# Altium integrated library Linear Technology PMIC-Switching Reg LTC1174-LTC3901.IntLib: 2647 symbols (part 300 of 310)
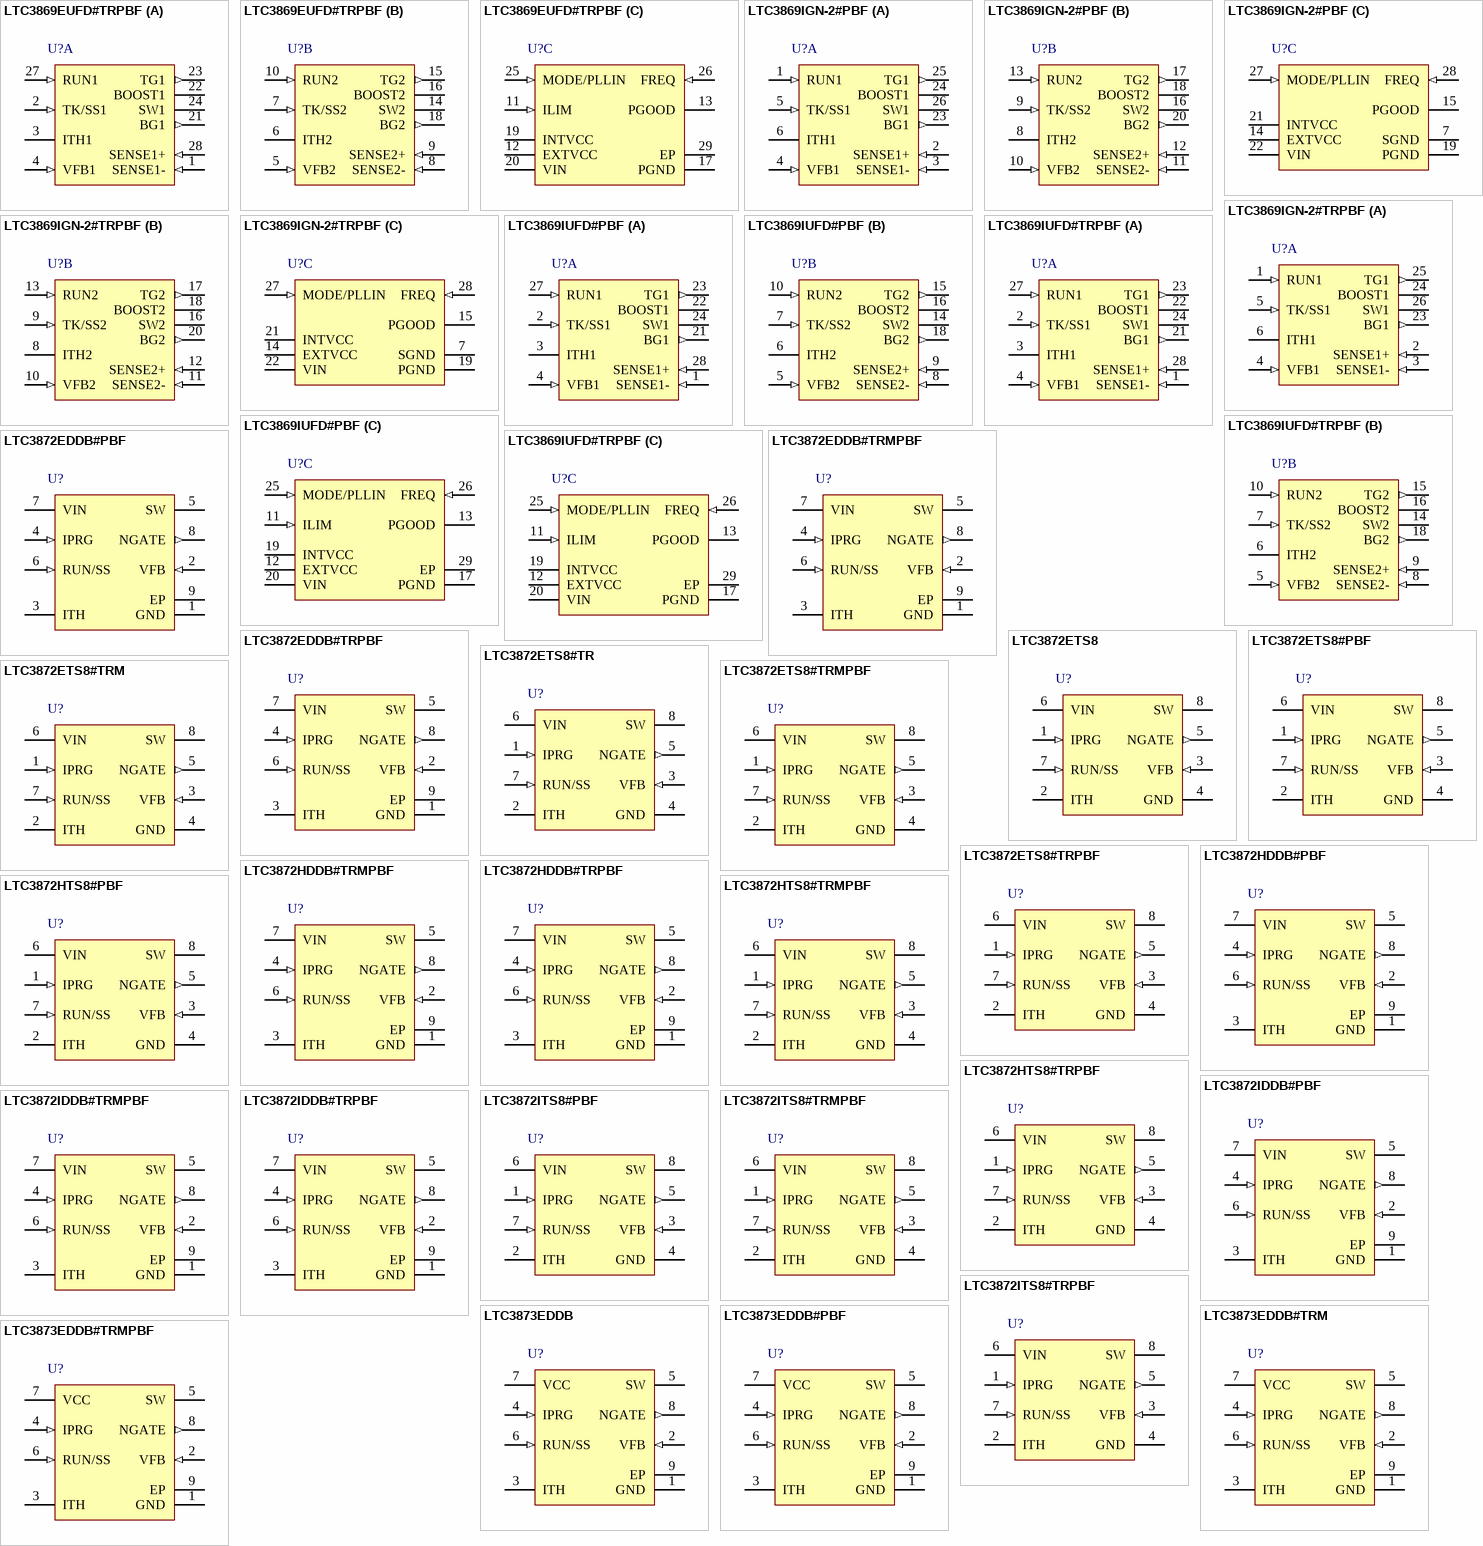
[diagram p298: symbols LTC3869EUFD#TRPBF to LTC3873EDDB#TRMPBF]

## LTC3869IGN-2#PBF
designator U?
Dual, 2-Phase Synchronous Step-Down DC/DC Controller, 28-pin SOP (GN-28), -40 to 125 degC, Pb-Free; Manufacturer: Linear Technology; PartNumber: LTC3869IGN-2#PBF; Number of Outputs: 2; PackageReference: GN-28; PackageDescription: 28-Pin Plastic SSOP, Body 9.9 x 3.9 mm, Pitch 0.635 mm; Supplier 1: Digi-Key; Supplier Part Number 1: LTC3869IGN-2#PBF-ND; RoHS: TRUE
footprint LT-GN-28_N (SOP, 28-Leads, Body 9.98x3.98mm, Pitch 0.635mm, IPC Medium Density)
footprint LT-GN-28_L (SOP, 28-Leads, Body 9.98x3.98mm, Pitch 0.635mm, IPC High Density)
footprint LT-GN-28_M (SOP, 28-Leads, Body 9.98x3.98mm, Pitch 0.635mm, IPC Low Density)
part A pins: 1 RUN1 (in) "Run Control Inputs. A voltage above 1.2V on either pin turns on the IC. However, forcing either of these pins below 1.2V causes the IC to shut down the circuitry required for that particular channel. There are 1uA pull-up (See Datasheet)", 2 SENSE1+ (in) "Current Sense Comparator Inputs. The (+) inputs to the current comparators are normally connected to DCR sensing networks or current sensing resistors.", 3 SENSE1- (in) "Current Sense Comparator Inputs. The (-) inputs to the current comparators are connected to the outputs.", 4 VFB1 (in) "Error Amplifier Feedback Inputs. These pins receive the remotely sensed feedback voltages for each channel from external resistive dividers across the outputs.", 5 TK/SS1 (in) "Output Voltage Tracking and Soft-Start Inputs. When one particular channel is configured to be the master of two channels, a capacitor to ground at this pin sets the ramp rate for the master channel’s output voltage. Whe(See Datasheet)", 6 ITH1 "Current Control Thresholds and Error Amplifier Compensation Points. Each associated channels’ current comparator tripping threshold increases with its ITH control voltage.", 23 BG1 (out) "Bottom Gate Driver Outputs. These pins drive the gates of the bottom N-channel MOSFETs between PGND and INTVCC.", 24 BOOST1 "Boosted Floating Driver Supplies. The (+) terminal of the booststrap capacitors connect to these pins. These pins swing from a diode voltage drop below INTVCC up to VIN + INTVCC", 25 TG1 (out) "Top Gate Driver Outputs. These are the outputs of floating drivers with a voltage swing equal to INTVCC superimposed on the switch nodes voltages.", 26 SW1 "Switch Node Connections to Inductors. Voltage swing at these pins is from a Schottky diode (external) voltage drop below ground to VIN."
part B pins: 8 ITH2 "Current Control Thresholds and Error Amplifier Compensation Points. Each associated channels’ current comparator tripping threshold increases with its ITH control voltage.", 9 TK/SS2 (in) "Output Voltage Tracking and Soft-Start Inputs. When one particular channel is configured to be the master of two channels, a capacitor to ground at this pin sets the ramp rate for the master channel’s output voltage. Whe(See Datasheet)", 10 VFB2 (in) "Error Amplifier Feedback Inputs. These pins receive the remotely sensed feedback voltages for each channel from external resistive dividers across the outputs.", 11 SENSE2- (in) "Current Sense Comparator Inputs. The (-) inputs to the current comparators are connected to the outputs.", 12 SENSE2+ (in) "Current Sense Comparator Inputs. The (+) inputs to the current comparators are normally connected to DCR sensing networks or current sensing resistors.", 13 RUN2 (in) "Run Control Inputs. A voltage above 1.2V on either pin turns on the IC. However, forcing either of these pins below 1.2V causes the IC to shut down the circuitry required for that particular channel. There are 1uA pull-up (See Datasheet)", 16 SW2 "Switch Node Connections to Inductors. Voltage swing at these pins is from a Schottky diode (external) voltage drop below ground to VIN.", 17 TG2 (out) "Top Gate Driver Outputs. These are the outputs of floating drivers with a voltage swing equal to INTVCC superimposed on the switch nodes voltages.", 18 BOOST2 "Boosted Floating Driver Supplies. The (+) terminal of the booststrap capacitors connect to these pins. These pins swing from a diode voltage drop below INTVCC up to VIN + INTVCC", 20 BG2 (out) "Bottom Gate Driver Outputs. These pins drive the gates of the bottom N-channel MOSFETs between PGND and INTVCC."
part C pins: 7 SGND (power) "Signal Ground. All small-signal components and compensation components should connect to this ground, which in turn connects to PGND at one point. Pin 29 is the exposed pad, only available for the UFD package. The exposed (See Datasheet)", 14 EXTVCC (power) "External Power Input to an Internal Switch Connected to INTVCC. This switch closes and supplies the IC power, bypassing the internal low dropout regulator, whenever EXTVCC is higher than 4.7V. Do not exceed 6V on this pin.", 15 PGOOD (oc) "Power Good Indicator Output. Open drain logic out that is pulled to ground when either channel output exceeds +/-10% regulation windows, after the internal 20us power bad mask timer expires.", 19 PGND (power) "Power Ground Pin. Connect this pin closely to the sources of the bottom N-channel MOSFETs, the (-) terminal of CVCC and the (-) terminal of CIN.", 21 INTVCC (power) "Internal 5V Regulator Output. The control circuits are powered from this voltage. Decouple this pin to PGND with a minimum of 4.7uF low ESR tantalum or ceramic capacitor.", 22 VIN (power) "Main Input Supply. Decouple this pin to PGND with a capacitor (0.1uF to 1uF).", 27 MODE/PLLIN (in) "Forced Continuous Mode, Burst Mode Operation, or Pulse-Skipping Mode Selection Pin and External Synchronization Input to Phase Detector Pin. Connect this pin to SGND to force both channels in continuous mode of operation. (See Datasheet)", 28 FREQ (in) "There is a precision 10uA current flowing out of this pin. Connect a resistor to ground set the controllers’ operating frequency. Alternatively, this pin can be driven with a DC voltage to vary the frequency of th(See Datasheet)"

## LTC3869IGN-2#TRPBF
designator U?
Dual, 2-Phase Synchronous Step-Down DC/DC Controller, 28-pin SOP (GN-28), -40 to 125 degC, Pb-Free, Tape and Reel; Manufacturer: Linear Technology; PartNumber: LTC3869IGN-2#TRPBF; Number of Outputs: 2; PackageReference: GN-28; PackageDescription: 28-Pin Plastic SSOP, Body 9.9 x 3.9 mm, Pitch 0.635 mm; Supplier 1: Digi-Key; Supplier Part Number 1: LTC3869IGN-2#TRPBF-ND; RoHS: TRUE
footprint LT-GN-28_N (SOP, 28-Leads, Body 9.98x3.98mm, Pitch 0.635mm, IPC Medium Density)
footprint LT-GN-28_L (SOP, 28-Leads, Body 9.98x3.98mm, Pitch 0.635mm, IPC High Density)
footprint LT-GN-28_M (SOP, 28-Leads, Body 9.98x3.98mm, Pitch 0.635mm, IPC Low Density)
part A pins: 1 RUN1 (in) "Run Control Inputs. A voltage above 1.2V on either pin turns on the IC. However, forcing either of these pins below 1.2V causes the IC to shut down the circuitry required for that particular channel. There are 1uA pull-up (See Datasheet)", 2 SENSE1+ (in) "Current Sense Comparator Inputs. The (+) inputs to the current comparators are normally connected to DCR sensing networks or current sensing resistors.", 3 SENSE1- (in) "Current Sense Comparator Inputs. The (-) inputs to the current comparators are connected to the outputs.", 4 VFB1 (in) "Error Amplifier Feedback Inputs. These pins receive the remotely sensed feedback voltages for each channel from external resistive dividers across the outputs.", 5 TK/SS1 (in) "Output Voltage Tracking and Soft-Start Inputs. When one particular channel is configured to be the master of two channels, a capacitor to ground at this pin sets the ramp rate for the master channel’s output voltage. Whe(See Datasheet)", 6 ITH1 "Current Control Thresholds and Error Amplifier Compensation Points. Each associated channels’ current comparator tripping threshold increases with its ITH control voltage.", 23 BG1 (out) "Bottom Gate Driver Outputs. These pins drive the gates of the bottom N-channel MOSFETs between PGND and INTVCC.", 24 BOOST1 "Boosted Floating Driver Supplies. The (+) terminal of the booststrap capacitors connect to these pins. These pins swing from a diode voltage drop below INTVCC up to VIN + INTVCC", 25 TG1 (out) "Top Gate Driver Outputs. These are the outputs of floating drivers with a voltage swing equal to INTVCC superimposed on the switch nodes voltages.", 26 SW1 "Switch Node Connections to Inductors. Voltage swing at these pins is from a Schottky diode (external) voltage drop below ground to VIN."
part B pins: 8 ITH2 "Current Control Thresholds and Error Amplifier Compensation Points. Each associated channels’ current comparator tripping threshold increases with its ITH control voltage.", 9 TK/SS2 (in) "Output Voltage Tracking and Soft-Start Inputs. When one particular channel is configured to be the master of two channels, a capacitor to ground at this pin sets the ramp rate for the master channel’s output voltage. Whe(See Datasheet)", 10 VFB2 (in) "Error Amplifier Feedback Inputs. These pins receive the remotely sensed feedback voltages for each channel from external resistive dividers across the outputs.", 11 SENSE2- (in) "Current Sense Comparator Inputs. The (-) inputs to the current comparators are connected to the outputs.", 12 SENSE2+ (in) "Current Sense Comparator Inputs. The (+) inputs to the current comparators are normally connected to DCR sensing networks or current sensing resistors.", 13 RUN2 (in) "Run Control Inputs. A voltage above 1.2V on either pin turns on the IC. However, forcing either of these pins below 1.2V causes the IC to shut down the circuitry required for that particular channel. There are 1uA pull-up (See Datasheet)", 16 SW2 "Switch Node Connections to Inductors. Voltage swing at these pins is from a Schottky diode (external) voltage drop below ground to VIN.", 17 TG2 (out) "Top Gate Driver Outputs. These are the outputs of floating drivers with a voltage swing equal to INTVCC superimposed on the switch nodes voltages.", 18 BOOST2 "Boosted Floating Driver Supplies. The (+) terminal of the booststrap capacitors connect to these pins. These pins swing from a diode voltage drop below INTVCC up to VIN + INTVCC", 20 BG2 (out) "Bottom Gate Driver Outputs. These pins drive the gates of the bottom N-channel MOSFETs between PGND and INTVCC."
part C pins: 7 SGND (power) "Signal Ground. All small-signal components and compensation components should connect to this ground, which in turn connects to PGND at one point. Pin 29 is the exposed pad, only available for the UFD package. The exposed (See Datasheet)", 14 EXTVCC (power) "External Power Input to an Internal Switch Connected to INTVCC. This switch closes and supplies the IC power, bypassing the internal low dropout regulator, whenever EXTVCC is higher than 4.7V. Do not exceed 6V on this pin.", 15 PGOOD (oc) "Power Good Indicator Output. Open drain logic out that is pulled to ground when either channel output exceeds +/-10% regulation windows, after the internal 20us power bad mask timer expires.", 19 PGND (power) "Power Ground Pin. Connect this pin closely to the sources of the bottom N-channel MOSFETs, the (-) terminal of CVCC and the (-) terminal of CIN.", 21 INTVCC (power) "Internal 5V Regulator Output. The control circuits are powered from this voltage. Decouple this pin to PGND with a minimum of 4.7uF low ESR tantalum or ceramic capacitor.", 22 VIN (power) "Main Input Supply. Decouple this pin to PGND with a capacitor (0.1uF to 1uF).", 27 MODE/PLLIN (in) "Forced Continuous Mode, Burst Mode Operation, or Pulse-Skipping Mode Selection Pin and External Synchronization Input to Phase Detector Pin. Connect this pin to SGND to force both channels in continuous mode of operation. (See Datasheet)", 28 FREQ (in) "There is a precision 10uA current flowing out of this pin. Connect a resistor to ground set the controllers’ operating frequency. Alternatively, this pin can be driven with a DC voltage to vary the frequency of th(See Datasheet)"

## LTC3869IUFD#PBF
designator U?
Dual, 2-Phase Synchronous Step-Down DC/DC Controller, 28-pin QFN (UFD-28), -40 to 125 degC, Pb-Free; Manufacturer: Linear Technology; PartNumber: LTC3869IUFD#PBF; Number of Outputs: 2; PackageReference: UFD-28; PackageDescription: 28-Pin Plastic QFN, Body 5 x 4 mm, Pitch 0.5 mm; Supplier 1: Digi-Key; Supplier Part Number 1: LTC3869IUFD#PBF-ND; RoHS: TRUE; Code_JEDEC: MO-220
footprint LT-UFD-28_N (QFN, 28-Leads, Body 5.1x4.1mm, Pitch 0.5mm, Thermal Pad 3.65x2.65mm, IPC Medium Density)
footprint LT-UFD-28_L (QFN, 28-Leads, Body 5.1x4.1mm, Pitch 0.5mm, Thermal Pad 3.65x2.65mm, IPC High Density)
footprint LT-UFD-28_M (QFN, 28-Leads, Body 5.1x4.1mm, Pitch 0.5mm, Thermal Pad 3.65x2.65mm, IPC Low Density)
part A pins: 1 SENSE1- (in) "Current Sense Comparator Inputs. The (-) inputs to the current comparators are connected to the outputs.", 2 TK/SS1 (in) "Output Voltage Tracking and Soft-Start Inputs. When one particular channel is configured to be the master of two channels, a capacitor to ground at this pin sets the ramp rate for the master channel’s output voltage. Whe(See Datasheet)", 3 ITH1 "Current Control Thresholds and Error Amplifier Compensation Points. Each associated channels’ current comparator tripping threshold increases with its ITH control voltage.", 4 VFB1 (in) "Error Amplifier Feedback Inputs. These pins receive the remotely sensed feedback voltages for each channel from external resistive dividers across the outputs.", 21 BG1 (out) "Bottom Gate Driver Outputs. These pins drive the gates of the bottom N-channel MOSFETs between PGND and INTVCC.", 22 BOOST1 "Boosted Floating Driver Supplies. The (+) terminal of the booststrap capacitors connect to these pins. These pins swing from a diode voltage drop below INTVCC up to VIN + INTVCC.", 23 TG1 (out) "Top Gate Driver Outputs. These are the outputs of floating drivers with a voltage swing equal to INTVCC superimposed on the switch nodes voltages.", 24 SW1 "Switch Node Connections to Inductors. Voltage swing at these pins is from a Schottky diode (external) voltage drop below ground to VIN.", 27 RUN1 (in) "Run Control Inputs. A voltage above 1.2V on either pin turns on the IC. However, forcing either of these pins below 1.2V causes the IC to shut down the circuitry required for that particular channel. There are 1uA pull-up (See Datasheet)", 28 SENSE1+ (in) "Current Sense Comparator Inputs. The (+) inputs to the current comparators are normally connected to DCR sensing networks or current sensing resistors."
part B pins: 5 VFB2 (in) "Error Amplifier Feedback Inputs. These pins receive the remotely sensed feedback voltages for each channel from external resistive dividers across the outputs.", 6 ITH2 "Current Control Thresholds and Error Amplifier Compensation Points. Each associated channels’ current comparator tripping threshold increases with its ITH control voltage.", 7 TK/SS2 (in) "Output Voltage Tracking and Soft-Start Inputs. When one particular channel is configured to be the master of two channels, a capacitor to ground at this pin sets the ramp rate for the master channel’s output voltage. Whe(See Datasheet)", 8 SENSE2- (in) "Current Sense Comparator Inputs. The (-) inputs to the current comparators are connected to the outputs.", 9 SENSE2+ (in) "Current Sense Comparator Inputs. The (+) inputs to the current comparators are normally connected to DCR sensing networks or current sensing resistors.", 10 RUN2 (in) "Run Control Inputs. A voltage above 1.2V on either pin turns on the IC. However, forcing either of these pins below 1.2V causes the IC to shut down the circuitry required for that particular channel. There are 1uA pull-up (See Datasheet)", 14 SW2 "Switch Node Connections to Inductors. Voltage swing at these pins is from a Schottky diode (external) voltage drop below ground to VIN.", 15 TG2 (out) "Top Gate Driver Outputs. These are the outputs of floating drivers with a voltage swing equal to INTVCC superimposed on the switch nodes voltages.", 16 BOOST2 "Boosted Floating Driver Supplies. The (+) terminal of the booststrap capacitors connect to these pins. These pins swing from a diode voltage drop below INTVCC up to VIN + INTVCC.", 18 BG2 (out) "Bottom Gate Driver Outputs. These pins drive the gates of the bottom N-channel MOSFETs between PGND and INTVCC."
part C pins: 11 ILIM (in) "Current Comparator Sense Voltage Range Inputs. This pin is to be programmed to SGND, FLOAT or INTVCC to set the maximum current sense threshold to three different levels for each comparator. The current limit default value (See Datasheet)", 12 EXTVCC (power) "External Power Input to an Internal Switch Connected to INTVCC. This switch closes and supplies the IC power, bypassing the internal low dropout regulator, whenever EXTVCC is higher than 4.7V. Do not exceed 6V on this pin.", 13 PGOOD (oc) "Power Good Indicator Output. Open drain logic out that is pulled to ground when either channel output exceeds +/-10% regulation windows, after the internal 20us power bad mask timer expires.", 17 PGND (power) "Power Ground Pin. Connect this pin closely to the sources of the bottom N-channel MOSFETs, the (-) terminal of CVCC and the (-) terminal of CIN.", 19 INTVCC (power) "Internal 5V Regulator Output. The control circuits are powered from this voltage. Decouple this pin to PGND with a minimum of 4.7uF low ESR tantalum or ceramic capacitor.", 20 VIN (power) "Main Input Supply. Decouple this pin to PGND with a capacitor (0.1uF to 1uF).", 25 MODE/PLLIN (in) "Forced Continuous Mode, Burst Mode Operation, or Pulse-Skipping Mode Selection Pin and External Synchronization Input to Phase Detector Pin. Connect this pin to SGND to force both channels in continuous mode of operation. (See Datasheet)", 26 FREQ (in) "There is a precision 10uA current flowing out of this pin. Connect a resistor to ground set the controllers’ operating frequency. Alternatively, this pin can be driven with a DC voltage to vary the frequency of th(See Datasheet)", 29 EP (power) "Signal Ground. Must be soldered to PCB, providing a local ground for the control components of the IC, and be tied to the PGND pin under the IC."

## LTC3869IUFD#TRPBF
designator U?
Dual, 2-Phase Synchronous Step-Down DC/DC Controller, 28-pin QFN (UFD-28), -40 to 125 degC, Pb-Free, Tape and Reel; Manufacturer: Linear Technology; PartNumber: LTC3869IUFD#TRPBF; Number of Outputs: 2; PackageReference: UFD-28; PackageDescription: 28-Pin Plastic QFN, Body 5 x 4 mm, Pitch 0.5 mm; Supplier 1: Digi-Key; Supplier Part Number 1: LTC3869IUFD#TRPBF-ND; RoHS: TRUE; Code_JEDEC: MO-220
footprint LT-UFD-28_N (QFN, 28-Leads, Body 5.1x4.1mm, Pitch 0.5mm, Thermal Pad 3.65x2.65mm, IPC Medium Density)
footprint LT-UFD-28_L (QFN, 28-Leads, Body 5.1x4.1mm, Pitch 0.5mm, Thermal Pad 3.65x2.65mm, IPC High Density)
footprint LT-UFD-28_M (QFN, 28-Leads, Body 5.1x4.1mm, Pitch 0.5mm, Thermal Pad 3.65x2.65mm, IPC Low Density)
part A pins: 1 SENSE1- (in) "Current Sense Comparator Inputs. The (-) inputs to the current comparators are connected to the outputs.", 2 TK/SS1 (in) "Output Voltage Tracking and Soft-Start Inputs. When one particular channel is configured to be the master of two channels, a capacitor to ground at this pin sets the ramp rate for the master channel’s output voltage. Whe(See Datasheet)", 3 ITH1 "Current Control Thresholds and Error Amplifier Compensation Points. Each associated channels’ current comparator tripping threshold increases with its ITH control voltage.", 4 VFB1 (in) "Error Amplifier Feedback Inputs. These pins receive the remotely sensed feedback voltages for each channel from external resistive dividers across the outputs.", 21 BG1 (out) "Bottom Gate Driver Outputs. These pins drive the gates of the bottom N-channel MOSFETs between PGND and INTVCC.", 22 BOOST1 "Boosted Floating Driver Supplies. The (+) terminal of the booststrap capacitors connect to these pins. These pins swing from a diode voltage drop below INTVCC up to VIN + INTVCC.", 23 TG1 (out) "Top Gate Driver Outputs. These are the outputs of floating drivers with a voltage swing equal to INTVCC superimposed on the switch nodes voltages.", 24 SW1 "Switch Node Connections to Inductors. Voltage swing at these pins is from a Schottky diode (external) voltage drop below ground to VIN.", 27 RUN1 (in) "Run Control Inputs. A voltage above 1.2V on either pin turns on the IC. However, forcing either of these pins below 1.2V causes the IC to shut down the circuitry required for that particular channel. There are 1uA pull-up (See Datasheet)", 28 SENSE1+ (in) "Current Sense Comparator Inputs. The (+) inputs to the current comparators are normally connected to DCR sensing networks or current sensing resistors."
part B pins: 5 VFB2 (in) "Error Amplifier Feedback Inputs. These pins receive the remotely sensed feedback voltages for each channel from external resistive dividers across the outputs.", 6 ITH2 "Current Control Thresholds and Error Amplifier Compensation Points. Each associated channels’ current comparator tripping threshold increases with its ITH control voltage.", 7 TK/SS2 (in) "Output Voltage Tracking and Soft-Start Inputs. When one particular channel is configured to be the master of two channels, a capacitor to ground at this pin sets the ramp rate for the master channel’s output voltage. Whe(See Datasheet)", 8 SENSE2- (in) "Current Sense Comparator Inputs. The (-) inputs to the current comparators are connected to the outputs.", 9 SENSE2+ (in) "Current Sense Comparator Inputs. The (+) inputs to the current comparators are normally connected to DCR sensing networks or current sensing resistors.", 10 RUN2 (in) "Run Control Inputs. A voltage above 1.2V on either pin turns on the IC. However, forcing either of these pins below 1.2V causes the IC to shut down the circuitry required for that particular channel. There are 1uA pull-up (See Datasheet)", 14 SW2 "Switch Node Connections to Inductors. Voltage swing at these pins is from a Schottky diode (external) voltage drop below ground to VIN.", 15 TG2 (out) "Top Gate Driver Outputs. These are the outputs of floating drivers with a voltage swing equal to INTVCC superimposed on the switch nodes voltages.", 16 BOOST2 "Boosted Floating Driver Supplies. The (+) terminal of the booststrap capacitors connect to these pins. These pins swing from a diode voltage drop below INTVCC up to VIN + INTVCC.", 18 BG2 (out) "Bottom Gate Driver Outputs. These pins drive the gates of the bottom N-channel MOSFETs between PGND and INTVCC."
part C pins: 11 ILIM (in) "Current Comparator Sense Voltage Range Inputs. This pin is to be programmed to SGND, FLOAT or INTVCC to set the maximum current sense threshold to three different levels for each comparator. The current limit default value (See Datasheet)", 12 EXTVCC (power) "External Power Input to an Internal Switch Connected to INTVCC. This switch closes and supplies the IC power, bypassing the internal low dropout regulator, whenever EXTVCC is higher than 4.7V. Do not exceed 6V on this pin.", 13 PGOOD (oc) "Power Good Indicator Output. Open drain logic out that is pulled to ground when either channel output exceeds +/-10% regulation windows, after the internal 20us power bad mask timer expires.", 17 PGND (power) "Power Ground Pin. Connect this pin closely to the sources of the bottom N-channel MOSFETs, the (-) terminal of CVCC and the (-) terminal of CIN.", 19 INTVCC (power) "Internal 5V Regulator Output. The control circuits are powered from this voltage. Decouple this pin to PGND with a minimum of 4.7uF low ESR tantalum or ceramic capacitor.", 20 VIN (power) "Main Input Supply. Decouple this pin to PGND with a capacitor (0.1uF to 1uF).", 25 MODE/PLLIN (in) "Forced Continuous Mode, Burst Mode Operation, or Pulse-Skipping Mode Selection Pin and External Synchronization Input to Phase Detector Pin. Connect this pin to SGND to force both channels in continuous mode of operation. (See Datasheet)", 26 FREQ (in) "There is a precision 10uA current flowing out of this pin. Connect a resistor to ground set the controllers’ operating frequency. Alternatively, this pin can be driven with a DC voltage to vary the frequency of th(See Datasheet)", 29 EP (power) "Signal Ground. Must be soldered to PCB, providing a local ground for the control components of the IC, and be tied to the PGND pin under the IC."

## LTC3872EDDB#PBF
designator U?
No Rsense Current Mode Boost DC/DC Controller, 8-pin SON (DDB-8), -40 to 85 degC, Pb-Free; Manufacturer: Linear Technology; PartNumber: LTC3872EDDB#PBF; Number of Outputs: 1; PackageReference: DDB-8; PackageDescription: 8-Pin Plastic DFN, Body 3 x 2 mm, Pitch 0.5 mm; Supplier 1: Farnell; Supplier Part Number 1: 2295187; RoHS: TRUE; Code_JEDEC: MO-229
footprint LT-DDB-8_V (SON, 8-Leads, Body 3x2mm, Pitch 0.5mm, Thermal Pad 2.2x0.61mm)
pins: 1 GND (power) "Ground. The exposed pad must be soldered to PCB ground for electrical contact and rated thermal performance.", 2 VFB (in) "Receives the feedback voltage from an external resistor divider across the output.", 3 ITH "It serves as the error amplifier compensation point. Nominal voltage range for this pin is 0.7V to 1.9V", 4 IPRG (in) "Current Sense Limit Select Pin.", 5 SW "Switch node connection to inductor and current sense input pin through external slope compensation resistor. Normally, the external N-channel MOSFET’s drain is connected to this pin.", 6 RUN/SS (in) "Shutdown and external soft-start pin. In shutdown, all functions are disabled and the NGATE pin is held low.", 7 VIN (power) "Supply Pin. This pin must be closely decoupled to GND.", 8 NGATE (out) "Gate Drive for the External N-Channel MOSFET. This pin swings from 0V to VIN.", 9 EP (power) "Ground. The exposed pad must be soldered to PCB ground for electrical contact and rated thermal performance."

## LTC3872EDDB#TRMPBF
designator U?
No Rsense Current Mode Boost DC/DC Controller, 8-pin SON (DDB-8), -40 to 85 degC, Pb-Free, Mini Tape and Reel; Manufacturer: Linear Technology; PartNumber: LTC3872EDDB#TRMPBF; Number of Outputs: 1; PackageReference: DDB-8; PackageDescription: 8-Pin Plastic DFN, Body 3 x 2 mm, Pitch 0.5 mm; Supplier 1: Digi-Key; Supplier Part Number 1: LTC3872EDDB#TRMPBFTR-ND; RoHS: TRUE; Code_JEDEC: MO-229
footprint LT-DDB-8_V (SON, 8-Leads, Body 3x2mm, Pitch 0.5mm, Thermal Pad 2.2x0.61mm)
pins: 1 GND (power) "Ground. The exposed pad must be soldered to PCB ground for electrical contact and rated thermal performance.", 2 VFB (in) "Receives the feedback voltage from an external resistor divider across the output.", 3 ITH "It serves as the error amplifier compensation point. Nominal voltage range for this pin is 0.7V to 1.9V", 4 IPRG (in) "Current Sense Limit Select Pin.", 5 SW "Switch node connection to inductor and current sense input pin through external slope compensation resistor. Normally, the external N-channel MOSFET’s drain is connected to this pin.", 6 RUN/SS (in) "Shutdown and external soft-start pin. In shutdown, all functions are disabled and the NGATE pin is held low.", 7 VIN (power) "Supply Pin. This pin must be closely decoupled to GND.", 8 NGATE (out) "Gate Drive for the External N-Channel MOSFET. This pin swings from 0V to VIN.", 9 EP (power) "Ground. The exposed pad must be soldered to PCB ground for electrical contact and rated thermal performance."

## LTC3872EDDB#TRPBF
designator U?
No Rsense Current Mode Boost DC/DC Controller, 8-pin SON (DDB-8), -40 to 85 degC, Pb-Free, Tape and Reel; Manufacturer: Linear Technology; PartNumber: LTC3872EDDB#TRPBF; Number of Outputs: 1; PackageReference: DDB-8; PackageDescription: 8-Pin Plastic DFN, Body 3 x 2 mm, Pitch 0.5 mm; Supplier 1: Digi-Key; Supplier Part Number 1: LTC3872EDDB#TRPBF-ND; RoHS: TRUE; Code_JEDEC: MO-229
footprint LT-DDB-8_V (SON, 8-Leads, Body 3x2mm, Pitch 0.5mm, Thermal Pad 2.2x0.61mm)
pins: 1 GND (power) "Ground. The exposed pad must be soldered to PCB ground for electrical contact and rated thermal performance.", 2 VFB (in) "Receives the feedback voltage from an external resistor divider across the output.", 3 ITH "It serves as the error amplifier compensation point. Nominal voltage range for this pin is 0.7V to 1.9V", 4 IPRG (in) "Current Sense Limit Select Pin.", 5 SW "Switch node connection to inductor and current sense input pin through external slope compensation resistor. Normally, the external N-channel MOSFET’s drain is connected to this pin.", 6 RUN/SS (in) "Shutdown and external soft-start pin. In shutdown, all functions are disabled and the NGATE pin is held low.", 7 VIN (power) "Supply Pin. This pin must be closely decoupled to GND.", 8 NGATE (out) "Gate Drive for the External N-Channel MOSFET. This pin swings from 0V to VIN.", 9 EP (power) "Ground. The exposed pad must be soldered to PCB ground for electrical contact and rated thermal performance."

## LTC3872ETS8
designator U?
No Rsense Current Mode Boost DC/DC Controller, 8-pin SOT23 (TS8-8), -40 to 85 degC; Manufacturer: Linear Technology; PartNumber: LTC3872ETS8; Number of Outputs: 1; PackageReference: TS8-8; PackageDescription: 8-Pin Plastic TSOT-23, Body 2.9 x 1.63 mm, Pitch 0.65 mm; RoHS: FALSE; Code_JEDEC: MO-193
footprint LT-TS8-8-TSOT-23_V (SOT23, 8-Leads, Body 2.9x1.75mm, Pitch 0.65mm)
pins: 1 IPRG (in) "Current Sense Limit Select Pin", 2 ITH "It serves as the error amplifier compensation point. Nominal voltage range for this pin is  0.7V to 1.9V.", 3 VFB (in) "Receives the feedback voltage from an  external resistor divider across the output.", 4 GND (power) "Ground. The exposed pad must be soldered to PCB ground for electrical  contact and rated thermal performance", 5 NGATE (out) "Gate Drive for the External N-Channel  MOSFET. This pin swings from 0V to VIN.", 6 VIN (power) "Supply Pin. This pin must be closely  decoupled to GND.", 7 RUN/SS (in) "Shutdown and external soft-start  pin. In shutdown, all functions are disabled and the NGATE  pin is held low.", 8 SW "Switch node connection to inductor and  current sense input pin through external slope compensation resistor. Normally, the external N-channel MOSFET’s  drain is connected to this pin."

## LTC3872ETS8#PBF
designator U?
No Rsense Current Mode Boost DC/DC Controller, 8-pin SOT23 (TS8-8), -40 to 85 degC, Pb-Free; Manufacturer: Linear Technology; PartNumber: LTC3872ETS8#PBF; Number of Outputs: 1; PackageReference: TS8-8; PackageDescription: 8-Pin Plastic TSOT-23, Body 2.9 x 1.63 mm, Pitch 0.65 mm; Supplier 1: Farnell; Supplier Part Number 1: 2102616; RoHS: TRUE; Code_JEDEC: MO-193
footprint LT-TS8-8-TSOT-23_V (SOT23, 8-Leads, Body 2.9x1.75mm, Pitch 0.65mm)
pins: 1 IPRG (in) "Current Sense Limit Select Pin", 2 ITH "It serves as the error amplifier compensation point. Nominal voltage range for this pin is  0.7V to 1.9V.", 3 VFB (in) "Receives the feedback voltage from an  external resistor divider across the output.", 4 GND (power) "Ground. The exposed pad must be soldered to PCB ground for electrical  contact and rated thermal performance", 5 NGATE (out) "Gate Drive for the External N-Channel  MOSFET. This pin swings from 0V to VIN.", 6 VIN (power) "Supply Pin. This pin must be closely  decoupled to GND.", 7 RUN/SS (in) "Shutdown and external soft-start  pin. In shutdown, all functions are disabled and the NGATE  pin is held low.", 8 SW "Switch node connection to inductor and  current sense input pin through external slope compensation resistor. Normally, the external N-channel MOSFET’s  drain is connected to this pin."

## LTC3872ETS8#TR
designator U?
No Rsense Current Mode Boost DC/DC Controller, 8-pin SOT23 (TS8-8), -40 to 85 degC, Tape and Reel; Manufacturer: Linear Technology; PartNumber: LTC3872ETS8#TR; Number of Outputs: 1; PackageReference: TS8-8; PackageDescription: 8-Pin Plastic TSOT-23, Body 2.9 x 1.63 mm, Pitch 0.65 mm; RoHS: FALSE; Code_JEDEC: MO-193
footprint LT-TS8-8-TSOT-23_V (SOT23, 8-Leads, Body 2.9x1.75mm, Pitch 0.65mm)
pins: 1 IPRG (in) "Current Sense Limit Select Pin", 2 ITH "It serves as the error amplifier compensation point. Nominal voltage range for this pin is  0.7V to 1.9V.", 3 VFB (in) "Receives the feedback voltage from an  external resistor divider across the output.", 4 GND (power) "Ground. The exposed pad must be soldered to PCB ground for electrical  contact and rated thermal performance", 5 NGATE (out) "Gate Drive for the External N-Channel  MOSFET. This pin swings from 0V to VIN.", 6 VIN (power) "Supply Pin. This pin must be closely  decoupled to GND.", 7 RUN/SS (in) "Shutdown and external soft-start  pin. In shutdown, all functions are disabled and the NGATE  pin is held low.", 8 SW "Switch node connection to inductor and  current sense input pin through external slope compensation resistor. Normally, the external N-channel MOSFET’s  drain is connected to this pin."

## LTC3872ETS8#TRM
designator U?
No Rsense Current Mode Boost DC/DC Controller, 8-pin SOT23 (TS8-8), -40 to 85 degC, Mini Tape and Reel; Manufacturer: Linear Technology; PartNumber: LTC3872ETS8#TRM; Number of Outputs: 1; PackageReference: TS8-8; PackageDescription: 8-Pin Plastic TSOT-23, Body 2.9 x 1.63 mm, Pitch 0.65 mm; RoHS: FALSE; Code_JEDEC: MO-193
footprint LT-TS8-8-TSOT-23_V (SOT23, 8-Leads, Body 2.9x1.75mm, Pitch 0.65mm)
pins: 1 IPRG (in) "Current Sense Limit Select Pin", 2 ITH "It serves as the error amplifier compensation point. Nominal voltage range for this pin is  0.7V to 1.9V.", 3 VFB (in) "Receives the feedback voltage from an  external resistor divider across the output.", 4 GND (power) "Ground. The exposed pad must be soldered to PCB ground for electrical  contact and rated thermal performance", 5 NGATE (out) "Gate Drive for the External N-Channel  MOSFET. This pin swings from 0V to VIN.", 6 VIN (power) "Supply Pin. This pin must be closely  decoupled to GND.", 7 RUN/SS (in) "Shutdown and external soft-start  pin. In shutdown, all functions are disabled and the NGATE  pin is held low.", 8 SW "Switch node connection to inductor and  current sense input pin through external slope compensation resistor. Normally, the external N-channel MOSFET’s  drain is connected to this pin."

## LTC3872ETS8#TRMPBF
designator U?
No Rsense Current Mode Boost DC/DC Controller, 8-pin SOT23 (TS8-8), -40 to 85 degC, Pb-Free, Mini Tape and Reel; Manufacturer: Linear Technology; PartNumber: LTC3872ETS8#TRMPBF; Number of Outputs: 1; PackageReference: TS8-8; PackageDescription: 8-Pin Plastic TSOT-23, Body 2.9 x 1.63 mm, Pitch 0.65 mm; Supplier 1: Digi-Key; Supplier Part Number 1: LTC3872ETS8#TRMPBFTR-ND; RoHS: TRUE; Code_JEDEC: MO-193
footprint LT-TS8-8-TSOT-23_V (SOT23, 8-Leads, Body 2.9x1.75mm, Pitch 0.65mm)
pins: 1 IPRG (in) "Current Sense Limit Select Pin", 2 ITH "It serves as the error amplifier compensation point. Nominal voltage range for this pin is  0.7V to 1.9V.", 3 VFB (in) "Receives the feedback voltage from an  external resistor divider across the output.", 4 GND (power) "Ground. The exposed pad must be soldered to PCB ground for electrical  contact and rated thermal performance", 5 NGATE (out) "Gate Drive for the External N-Channel  MOSFET. This pin swings from 0V to VIN.", 6 VIN (power) "Supply Pin. This pin must be closely  decoupled to GND.", 7 RUN/SS (in) "Shutdown and external soft-start  pin. In shutdown, all functions are disabled and the NGATE  pin is held low.", 8 SW "Switch node connection to inductor and  current sense input pin through external slope compensation resistor. Normally, the external N-channel MOSFET’s  drain is connected to this pin."

## LTC3872ETS8#TRPBF
designator U?
No Rsense Current Mode Boost DC/DC Controller, 8-pin SOT23 (TS8-8), -40 to 85 degC, Pb-Free, Tape and Reel; Manufacturer: Linear Technology; PartNumber: LTC3872ETS8#TRPBF; Number of Outputs: 1; PackageReference: TS8-8; PackageDescription: 8-Pin Plastic TSOT-23, Body 2.9 x 1.63 mm, Pitch 0.65 mm; Supplier 1: Digi-Key; Supplier Part Number 1: LTC3872ETS8#TRPBF-ND; RoHS: TRUE; Code_JEDEC: MO-193
footprint LT-TS8-8-TSOT-23_V (SOT23, 8-Leads, Body 2.9x1.75mm, Pitch 0.65mm)
pins: 1 IPRG (in) "Current Sense Limit Select Pin", 2 ITH "It serves as the error amplifier compensation point. Nominal voltage range for this pin is  0.7V to 1.9V.", 3 VFB (in) "Receives the feedback voltage from an  external resistor divider across the output.", 4 GND (power) "Ground. The exposed pad must be soldered to PCB ground for electrical  contact and rated thermal performance", 5 NGATE (out) "Gate Drive for the External N-Channel  MOSFET. This pin swings from 0V to VIN.", 6 VIN (power) "Supply Pin. This pin must be closely  decoupled to GND.", 7 RUN/SS (in) "Shutdown and external soft-start  pin. In shutdown, all functions are disabled and the NGATE  pin is held low.", 8 SW "Switch node connection to inductor and  current sense input pin through external slope compensation resistor. Normally, the external N-channel MOSFET’s  drain is connected to this pin."

## LTC3872HDDB#PBF
designator U?
No Rsense Current Mode Boost DC/DC Controller, 8-pin SON (DDB-8), -40 to 150 degC, Pb-Free; Manufacturer: Linear Technology; PartNumber: LTC3872HDDB#PBF; Number of Outputs: 1; PackageReference: DDB-8; PackageDescription: 8-Pin Plastic DFN, Body 3 x 2 mm, Pitch 0.5 mm; RoHS: TRUE; Code_JEDEC: MO-229
footprint LT-DDB-8_V (SON, 8-Leads, Body 3x2mm, Pitch 0.5mm, Thermal Pad 2.2x0.61mm)
pins: 1 GND (power) "Ground. The exposed pad must be soldered to PCB ground for electrical contact and rated thermal performance.", 2 VFB (in) "Receives the feedback voltage from an external resistor divider across the output.", 3 ITH "It serves as the error amplifier compensation point. Nominal voltage range for this pin is 0.7V to 1.9V", 4 IPRG (in) "Current Sense Limit Select Pin.", 5 SW "Switch node connection to inductor and current sense input pin through external slope compensation resistor. Normally, the external N-channel MOSFET’s drain is connected to this pin.", 6 RUN/SS (in) "Shutdown and external soft-start pin. In shutdown, all functions are disabled and the NGATE pin is held low.", 7 VIN (power) "Supply Pin. This pin must be closely decoupled to GND.", 8 NGATE (out) "Gate Drive for the External N-Channel MOSFET. This pin swings from 0V to VIN.", 9 EP (power) "Ground. The exposed pad must be soldered to PCB ground for electrical contact and rated thermal performance."

## LTC3872HDDB#TRMPBF
designator U?
No Rsense Current Mode Boost DC/DC Controller, 8-pin SON (DDB-8), -40 to 150 degC, Pb-Free, Mini Tape and Reel; Manufacturer: Linear Technology; PartNumber: LTC3872HDDB#TRMPBF; Number of Outputs: 1; PackageReference: DDB-8; PackageDescription: 8-Pin Plastic DFN, Body 3 x 2 mm, Pitch 0.5 mm; Supplier 1: Digi-Key; Supplier Part Number 1: LTC3872HDDB#TRMPBF-ND; RoHS: TRUE; Code_JEDEC: MO-229
footprint LT-DDB-8_V (SON, 8-Leads, Body 3x2mm, Pitch 0.5mm, Thermal Pad 2.2x0.61mm)
pins: 1 GND (power) "Ground. The exposed pad must be soldered to PCB ground for electrical contact and rated thermal performance.", 2 VFB (in) "Receives the feedback voltage from an external resistor divider across the output.", 3 ITH "It serves as the error amplifier compensation point. Nominal voltage range for this pin is 0.7V to 1.9V", 4 IPRG (in) "Current Sense Limit Select Pin.", 5 SW "Switch node connection to inductor and current sense input pin through external slope compensation resistor. Normally, the external N-channel MOSFET’s drain is connected to this pin.", 6 RUN/SS (in) "Shutdown and external soft-start pin. In shutdown, all functions are disabled and the NGATE pin is held low.", 7 VIN (power) "Supply Pin. This pin must be closely decoupled to GND.", 8 NGATE (out) "Gate Drive for the External N-Channel MOSFET. This pin swings from 0V to VIN.", 9 EP (power) "Ground. The exposed pad must be soldered to PCB ground for electrical contact and rated thermal performance."

## LTC3872HDDB#TRPBF
designator U?
No Rsense Current Mode Boost DC/DC Controller, 8-pin SON (DDB-8), -40 to 150 degC, Pb-Free, Tape and Reel; Manufacturer: Linear Technology; PartNumber: LTC3872HDDB#TRPBF; Number of Outputs: 1; PackageReference: DDB-8; PackageDescription: 8-Pin Plastic DFN, Body 3 x 2 mm, Pitch 0.5 mm; Supplier 1: Digi-Key; Supplier Part Number 1: LTC3872HDDB#TRPBF-ND; RoHS: TRUE; Code_JEDEC: MO-229
footprint LT-DDB-8_V (SON, 8-Leads, Body 3x2mm, Pitch 0.5mm, Thermal Pad 2.2x0.61mm)
pins: 1 GND (power) "Ground. The exposed pad must be soldered to PCB ground for electrical contact and rated thermal performance.", 2 VFB (in) "Receives the feedback voltage from an external resistor divider across the output.", 3 ITH "It serves as the error amplifier compensation point. Nominal voltage range for this pin is 0.7V to 1.9V", 4 IPRG (in) "Current Sense Limit Select Pin.", 5 SW "Switch node connection to inductor and current sense input pin through external slope compensation resistor. Normally, the external N-channel MOSFET’s drain is connected to this pin.", 6 RUN/SS (in) "Shutdown and external soft-start pin. In shutdown, all functions are disabled and the NGATE pin is held low.", 7 VIN (power) "Supply Pin. This pin must be closely decoupled to GND.", 8 NGATE (out) "Gate Drive for the External N-Channel MOSFET. This pin swings from 0V to VIN.", 9 EP (power) "Ground. The exposed pad must be soldered to PCB ground for electrical contact and rated thermal performance."

## LTC3872HTS8#PBF
designator U?
No Rsense Current Mode Boost DC/DC Controller, 8-pin SOT23 (TS8-8), -40 to 150 degC, Pb-Free; Manufacturer: Linear Technology; PartNumber: LTC3872HTS8#PBF; Number of Outputs: 1; PackageReference: TS8-8; PackageDescription: 8-Pin Plastic TSOT-23, Body 2.9 x 1.63 mm, Pitch 0.65 mm; Supplier 1: Newark; Supplier Part Number 1: 78T3272; RoHS: TRUE; Code_JEDEC: MO-193
footprint LT-TS8-8-TSOT-23_V (SOT23, 8-Leads, Body 2.9x1.75mm, Pitch 0.65mm)
pins: 1 IPRG (in) "Current Sense Limit Select Pin", 2 ITH "It serves as the error amplifier compensation point. Nominal voltage range for this pin is  0.7V to 1.9V.", 3 VFB (in) "Receives the feedback voltage from an  external resistor divider across the output.", 4 GND (power) "Ground. The exposed pad must be soldered to PCB ground for electrical  contact and rated thermal performance", 5 NGATE (out) "Gate Drive for the External N-Channel  MOSFET. This pin swings from 0V to VIN.", 6 VIN (power) "Supply Pin. This pin must be closely  decoupled to GND.", 7 RUN/SS (in) "Shutdown and external soft-start  pin. In shutdown, all functions are disabled and the NGATE  pin is held low.", 8 SW "Switch node connection to inductor and  current sense input pin through external slope compensation resistor. Normally, the external N-channel MOSFET’s  drain is connected to this pin."

## LTC3872HTS8#TRMPBF
designator U?
No Rsense Current Mode Boost DC/DC Controller, 8-pin SOT23 (TS8-8), -40 to 150 degC, Pb-Free, Mini Tape and Reel; Manufacturer: Linear Technology; PartNumber: LTC3872HTS8#TRMPBF; Number of Outputs: 1; PackageReference: TS8-8; PackageDescription: 8-Pin Plastic TSOT-23, Body 2.9 x 1.63 mm, Pitch 0.65 mm; Supplier 1: Digi-Key; Supplier Part Number 1: LTC3872HTS8#TRMPBF-ND; RoHS: TRUE; Code_JEDEC: MO-193
footprint LT-TS8-8-TSOT-23_V (SOT23, 8-Leads, Body 2.9x1.75mm, Pitch 0.65mm)
pins: 1 IPRG (in) "Current Sense Limit Select Pin", 2 ITH "It serves as the error amplifier compensation point. Nominal voltage range for this pin is  0.7V to 1.9V.", 3 VFB (in) "Receives the feedback voltage from an  external resistor divider across the output.", 4 GND (power) "Ground. The exposed pad must be soldered to PCB ground for electrical  contact and rated thermal performance", 5 NGATE (out) "Gate Drive for the External N-Channel  MOSFET. This pin swings from 0V to VIN.", 6 VIN (power) "Supply Pin. This pin must be closely  decoupled to GND.", 7 RUN/SS (in) "Shutdown and external soft-start  pin. In shutdown, all functions are disabled and the NGATE  pin is held low.", 8 SW "Switch node connection to inductor and  current sense input pin through external slope compensation resistor. Normally, the external N-channel MOSFET’s  drain is connected to this pin."

## LTC3872HTS8#TRPBF
designator U?
No Rsense Current Mode Boost DC/DC Controller, 8-pin SOT23 (TS8-8), -40 to 150 degC, Pb-Free, Tape and Reel; Manufacturer: Linear Technology; PartNumber: LTC3872HTS8#TRPBF; Number of Outputs: 1; PackageReference: TS8-8; PackageDescription: 8-Pin Plastic TSOT-23, Body 2.9 x 1.63 mm, Pitch 0.65 mm; Supplier 1: Digi-Key; Supplier Part Number 1: LTC3872HTS8#TRPBF-ND; RoHS: TRUE; Code_JEDEC: MO-193
footprint LT-TS8-8-TSOT-23_V (SOT23, 8-Leads, Body 2.9x1.75mm, Pitch 0.65mm)
pins: 1 IPRG (in) "Current Sense Limit Select Pin", 2 ITH "It serves as the error amplifier compensation point. Nominal voltage range for this pin is  0.7V to 1.9V.", 3 VFB (in) "Receives the feedback voltage from an  external resistor divider across the output.", 4 GND (power) "Ground. The exposed pad must be soldered to PCB ground for electrical  contact and rated thermal performance", 5 NGATE (out) "Gate Drive for the External N-Channel  MOSFET. This pin swings from 0V to VIN.", 6 VIN (power) "Supply Pin. This pin must be closely  decoupled to GND.", 7 RUN/SS (in) "Shutdown and external soft-start  pin. In shutdown, all functions are disabled and the NGATE  pin is held low.", 8 SW "Switch node connection to inductor and  current sense input pin through external slope compensation resistor. Normally, the external N-channel MOSFET’s  drain is connected to this pin."

## LTC3872IDDB#PBF
designator U?
No Rsense Current Mode Boost DC/DC Controller, 8-pin SON (DDB-8), -40 to 125 degC, Pb-Free; Manufacturer: Linear Technology; PartNumber: LTC3872IDDB#PBF; Number of Outputs: 1; PackageReference: DDB-8; PackageDescription: 8-Pin Plastic DFN, Body 3 x 2 mm, Pitch 0.5 mm; RoHS: TRUE; Code_JEDEC: MO-229
footprint LT-DDB-8_V (SON, 8-Leads, Body 3x2mm, Pitch 0.5mm, Thermal Pad 2.2x0.61mm)
pins: 1 GND (power) "Ground. The exposed pad must be soldered to PCB ground for electrical contact and rated thermal performance.", 2 VFB (in) "Receives the feedback voltage from an external resistor divider across the output.", 3 ITH "It serves as the error amplifier compensation point. Nominal voltage range for this pin is 0.7V to 1.9V", 4 IPRG (in) "Current Sense Limit Select Pin.", 5 SW "Switch node connection to inductor and current sense input pin through external slope compensation resistor. Normally, the external N-channel MOSFET’s drain is connected to this pin.", 6 RUN/SS (in) "Shutdown and external soft-start pin. In shutdown, all functions are disabled and the NGATE pin is held low.", 7 VIN (power) "Supply Pin. This pin must be closely decoupled to GND.", 8 NGATE (out) "Gate Drive for the External N-Channel MOSFET. This pin swings from 0V to VIN.", 9 EP (power) "Ground. The exposed pad must be soldered to PCB ground for electrical contact and rated thermal performance."

## LTC3872IDDB#TRMPBF
designator U?
No Rsense Current Mode Boost DC/DC Controller, 8-pin SON (DDB-8), -40 to 125 degC, Pb-Free, Mini Tape and Reel; Manufacturer: Linear Technology; PartNumber: LTC3872IDDB#TRMPBF; Number of Outputs: 1; PackageReference: DDB-8; PackageDescription: 8-Pin Plastic DFN, Body 3 x 2 mm, Pitch 0.5 mm; Supplier 1: Digi-Key; Supplier Part Number 1: LTC3872IDDB#TRMPBF-ND; RoHS: TRUE; Code_JEDEC: MO-229
footprint LT-DDB-8_V (SON, 8-Leads, Body 3x2mm, Pitch 0.5mm, Thermal Pad 2.2x0.61mm)
pins: 1 GND (power) "Ground. The exposed pad must be soldered to PCB ground for electrical contact and rated thermal performance.", 2 VFB (in) "Receives the feedback voltage from an external resistor divider across the output.", 3 ITH "It serves as the error amplifier compensation point. Nominal voltage range for this pin is 0.7V to 1.9V", 4 IPRG (in) "Current Sense Limit Select Pin.", 5 SW "Switch node connection to inductor and current sense input pin through external slope compensation resistor. Normally, the external N-channel MOSFET’s drain is connected to this pin.", 6 RUN/SS (in) "Shutdown and external soft-start pin. In shutdown, all functions are disabled and the NGATE pin is held low.", 7 VIN (power) "Supply Pin. This pin must be closely decoupled to GND.", 8 NGATE (out) "Gate Drive for the External N-Channel MOSFET. This pin swings from 0V to VIN.", 9 EP (power) "Ground. The exposed pad must be soldered to PCB ground for electrical contact and rated thermal performance."

## LTC3872IDDB#TRPBF
designator U?
No Rsense Current Mode Boost DC/DC Controller, 8-pin SON (DDB-8), -40 to 125 degC, Pb-Free, Tape and Reel; Manufacturer: Linear Technology; PartNumber: LTC3872IDDB#TRPBF; Number of Outputs: 1; PackageReference: DDB-8; PackageDescription: 8-Pin Plastic DFN, Body 3 x 2 mm, Pitch 0.5 mm; Supplier 1: Digi-Key; Supplier Part Number 1: LTC3872IDDB#TRPBF-ND; RoHS: TRUE; Code_JEDEC: MO-229
footprint LT-DDB-8_V (SON, 8-Leads, Body 3x2mm, Pitch 0.5mm, Thermal Pad 2.2x0.61mm)
pins: 1 GND (power) "Ground. The exposed pad must be soldered to PCB ground for electrical contact and rated thermal performance.", 2 VFB (in) "Receives the feedback voltage from an external resistor divider across the output.", 3 ITH "It serves as the error amplifier compensation point. Nominal voltage range for this pin is 0.7V to 1.9V", 4 IPRG (in) "Current Sense Limit Select Pin.", 5 SW "Switch node connection to inductor and current sense input pin through external slope compensation resistor. Normally, the external N-channel MOSFET’s drain is connected to this pin.", 6 RUN/SS (in) "Shutdown and external soft-start pin. In shutdown, all functions are disabled and the NGATE pin is held low.", 7 VIN (power) "Supply Pin. This pin must be closely decoupled to GND.", 8 NGATE (out) "Gate Drive for the External N-Channel MOSFET. This pin swings from 0V to VIN.", 9 EP (power) "Ground. The exposed pad must be soldered to PCB ground for electrical contact and rated thermal performance."